# Altium footprint library FPC8P.PcbLib: 1 footprints
Each footprint in its own frame and in the unit in brackets; x right, y up, seen from the top. Pads: shape width x height; smd on the part's side, far side on the other; paste and mask are expansions set on the pad; w line width, h text height; cw(c..) or ccw(c..) is an arc to the next point about the centre after c.
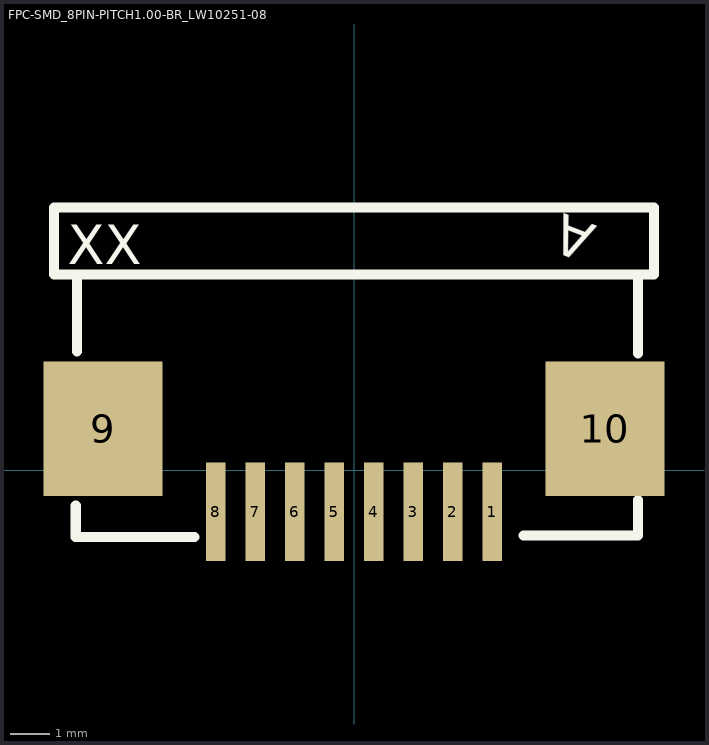
[diagram p0: the footprint, top view; thin cyan lines are the x and y axes]

## FPC-SMD_8PIN-PITCH1.00-BR_LW10251-08 [mm]
pads (10):
  rect 0.5x2.5 smd: 1(3.5,-1.05) 2(2.5,-1.05) 3(1.5,-1.05) 4(0.5,-1.05) 5(-0.5,-1.05) 6(-1.5,-1.05) 7(-2.5,-1.05) 8(-3.5,-1.05)
  rect 3x3.4 smd: 9(-6.35,1.05) 10(6.35,1.05)
Top Overlay:
  lines w0.254: -7.591,6.65 7.591,6.651 7.591,4.954 -7.591,4.954 -7.591,6.651 ; -7.04,-0.893 -7.04,-1.693 -4.04,-1.693 ; -7.009,3.007 -7.009,4.907 ; 4.29,-1.65 7.19,-1.65 7.19,-0.75 ; 7.18,2.95 7.18,4.95
  text "A" at 6.17,6.172 h1
  text "XX" at -7.239,5.215 h1